# Altium schematic symbol library S5B-PH-K-S.Schlib: 1 symbol
Pins are listed as number, name and electrical type; pins without a type are passive.

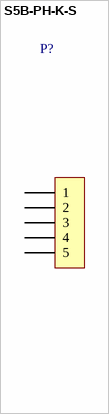
[diagram p0: symbol S5B-PH-K-S]

## S5B-PH-K-S
designator P?
2mm Pitch, 1X5 Right Male Header
pins: 1, 2, 3, 4, 5